# Altium footprint library SOP_MSOP.PcbLib: 10 footprints
Each footprint in its own frame and in the unit in brackets; x right, y up, seen from the top. Pads: shape width x height; smd on the part's side, far side on the other; paste and mask are expansions set on the pad; w line width, h text height; cw(c..) or ccw(c..) is an arc to the next point about the centre after c.
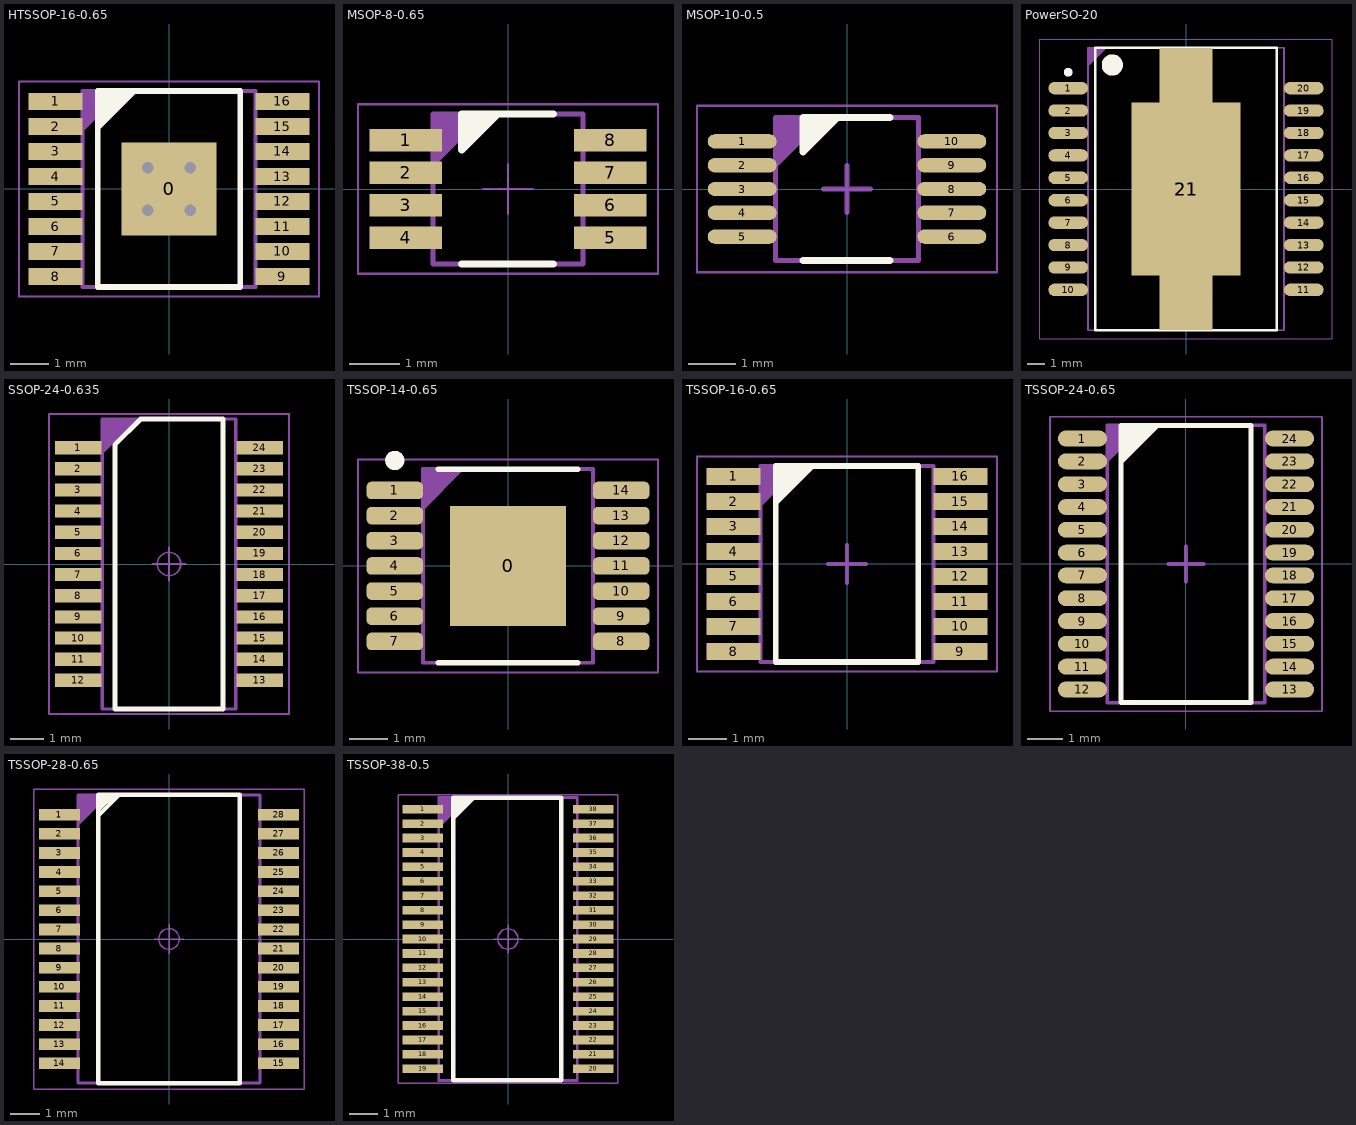
[diagram p0: the footprints below, top view; thin cyan lines are the x and y axes]

## HTSSOP-16-0.65 [mm] "TSOP, 16-Leads, Body 5,00x4,40mm, Pitch 0,65mm, Thermal Pad 2,41x2,46mm, IPC Medium Density"
height 1.2
pads (17):
  rect 2.46x2.41 smd: 0(0,0)
  rect 1.4x0.45 smd: 1(-2.95,2.275) 2(-2.95,1.625) 3(-2.95,0.975) 4(-2.95,0.325) 5(-2.95,-0.325) 6(-2.95,-0.975) 7(-2.95,-1.625) 8(-2.95,-2.275) 9(2.95,-2.275) 10(2.95,-1.625) 11(2.95,-0.975) 12(2.95,-0.325) 13(2.95,0.325) 14(2.95,0.975) 15(2.95,1.625) 16(2.95,2.275)
via 0.55,-0.55 diameter 0.7 hole 0.3
via -0.55,-0.55 diameter 0.7 hole 0.3
via 0.55,0.55 diameter 0.7 hole 0.3
via -0.55,0.55 diameter 0.7 hole 0.3
Top Overlay:
  lines w0.15: -1.85,1.6 -0.9,2.55 -1.1,2.55 -1.85,1.8 -1.85,2 -1.3,2.55 -1.5,2.55 -1.85,2.2 -1.85,2.4 -1.7,2.55 ; -1.85,-2.55 1.85,-2.55 1.85,2.55 -1.85,2.55 -1.85,-2.55
ASM Top:
  lines w0.1: -2.25,1.55 -1.25,2.55 ; -2.25,1.65 -1.35,2.55 ; -2.25,1.75 -1.45,2.55 ; -2.25,1.85 -1.55,2.55 ; -2.25,1.95 -1.65,2.55 ; -2.25,2.05 -1.75,2.55 ; -2.25,2.15 -1.85,2.55 ; -2.25,2.25 -1.95,2.55 ; -2.25,2.35 -2.05,2.55 ; -2.25,2.45 -2.15,2.55 ; -2.25,-2.55 -2.25,2.55 2.25,2.55 2.25,-2.55 -2.25,-2.55
  text ".Designator" at -0.175,-0.7 h1
PNP Top:
  lines w0.05: -3.9,-2.8 3.9,-2.8 3.9,2.8 -3.9,2.8 -3.9,-2.8
  lines w0.1: -0.5,0 0.5,0 ; 0,-0.5 0,0.5
3D body "TSOP65P640X120_HS-17N.step": height 1.2, standoff 0, extent -3.2,-2.55 3.2,2.55

## MSOP-8-0.65 [mm]
pads (8):
  rect 1.45x0.45 smd: 1(-2.044,0.975) 2(-2.044,0.325) 3(-2.044,-0.325) 4(-2.044,-0.975) 5(2.044,-0.975) 6(2.044,-0.325) 7(2.044,0.325) 8(2.044,0.975)
Top Overlay:
  lines w0.15: -0.925,-1.5 0.9,-1.5 ; -0.925,0.889 -0.925,0.907 -0.435,1.397 -0.562,1.397 -0.816,1.143 -0.816,1.27 -0.689,1.397 -0.816,1.397 ; -0.205,1.5 -0.925,0.78 -0.925,1.5 0.9,1.5
ASM Top:
  lines w0.1: -1.5,0.5 -0.5,1.5 ; -1.5,0.6 -0.6,1.5 ; -1.5,0.7 -0.7,1.5 ; -1.5,0.8 -0.8,1.5 ; -1.5,0.9 -0.9,1.5 ; -1.5,1 -1,1.5 ; -1.5,1.1 -1.1,1.5 ; -1.5,1.2 -1.2,1.5 ; -1.5,1.3 -1.3,1.5 ; -1.5,1.4 -1.4,1.5 ; -1.5,-1.5 -1.5,1.5 1.5,1.5 1.5,-1.5 -1.5,-1.5
  text ".Designator" at -0.9,-0.4 h0.6
PNP Top:
  lines w0.05: -0.5,0 0.5,0 ; 0,-0.5 0,0.5 ; -3,-1.7 3,-1.7 3,1.7 -3,1.7 -3,-1.7
3D body "SOP65P488X110-8N.stp": height 1.1, standoff 0, extent -2.45,-1.55 2.45,1.55

## MSOP-10-0.5 [mm] "TSSOP, 10-Leads, Body 3,00x3,00mm, Pitch 0,50mm, IPC Medium Density"
height 1.1
pads (10):
  oval 1.45x0.3 smd: 1(-2.2,1) 2(-2.2,0.5) 3(-2.2,0) 4(-2.2,-0.5) 5(-2.2,-1) 6(2.2,-1) 7(2.2,-0.5) 8(2.2,0) 9(2.2,0.5) 10(2.2,1)
Top Overlay:
  lines w0.15: -0.925,-1.5 0.9,-1.5 ; -0.925,0.889 -0.925,0.907 -0.435,1.397 -0.562,1.397 -0.816,1.143 -0.816,1.27 -0.689,1.397 -0.816,1.397 ; -0.205,1.5 -0.925,0.78 -0.925,1.5 0.9,1.5
ASM Top:
  lines w0.1: -1.5,0.5 -0.5,1.5 ; -1.5,0.6 -0.6,1.5 ; -1.5,0.7 -0.7,1.5 ; -1.5,0.8 -0.8,1.5 ; -1.5,0.9 -0.9,1.5 ; -1.5,1 -1,1.5 ; -1.5,1.1 -1.1,1.5 ; -1.5,1.2 -1.2,1.5 ; -1.5,1.3 -1.3,1.5 ; -1.5,1.4 -1.4,1.5 ; -1.5,-1.5 1.5,-1.5 1.5,1.5 -1.5,1.5 -1.5,-1.5
  text ".Designator" at -0.9,-0.4 h0.6
PNP Top:
  lines w0.05: -3.15,-1.75 3.15,-1.75 3.15,1.75 -3.15,1.75 -3.15,-1.75
  lines w0.1: -0.5,0 0.5,0 ; 0,-0.5 0,0.5
3D body "TSSOP50P490X110-10N.step": height 1.1, standoff 0, extent -2.45,-1.5 2.45,1.5

## PowerSO-20 [mm] "SOP, 20-Leads, Body 15,90x11,00mm, Pitch 1,27mm, Thermal Pad 9,80x6,20mm, IPC Low Density"
height 3.6
pads (22):
  oval 2.25x0.7 smd: 1(-6.675,5.715) 2(-6.675,4.445) 3(-6.675,3.175) 4(-6.675,1.905) 5(-6.675,0.635) 6(-6.675,-0.635) 7(-6.675,-1.905) 8(-6.675,-3.175) 9(-6.675,-4.445) 10(-6.675,-5.715) 11(6.675,-5.715) 12(6.675,-4.445) 13(6.675,-3.175) 14(6.675,-1.905) 15(6.675,-0.635) 16(6.675,0.635) 17(6.675,1.905) 18(6.675,3.175) 19(6.675,4.445) 20(6.675,5.715)
  rect 6.2x9.8 smd: 21(0,0)
  rect 3x16 smd: 21(0,0)
Top Overlay:
  circle w0.25: c-6.675,6.615 r0.125
  circle w0.6: c-4.175,7.025 r0.3
  lines w0.15: -5.15,-8 -5.15,8 5.15,8 5.15,-8 -5.15,-8
ASM Top:
  lines w0.1: -5.55,7 -4.55,8 ; -5.55,7.1 -4.65,8 ; -5.55,7.2 -4.75,8 ; -5.55,7.3 -4.85,8 ; -5.55,7.4 -4.95,8 ; -5.55,7.5 -5.05,8 ; -5.55,7.6 -5.15,8 ; -5.55,7.7 -5.25,8 ; -5.55,7.8 -5.35,8 ; -5.55,7.9 -5.45,8 ; -5.55,-8 5.55,-8 5.55,8 -5.55,8 -5.55,-8
PNP Top:
  lines w0.05: -8.3,-8.5 -8.3,8.5 8.3,8.5 8.3,-8.5 -8.3,-8.5
  lines w0.1: -0.5,0 0.5,0 ; 0,-0.5 0,0.5
3D body "User Library-PowerSO20.STEP": height 3.6, standoff 0, extent -7.2,-8 7.2,8

## SSOP-24-0.635 [mm] "SOP, 24-Leads, Body 8,65x4,00mm, Pitch 0,64mm, IPC High Density"
height 1.75
pads (24):
  rect 1.4x0.4 smd: 1(-2.725,3.492) 2(-2.725,2.857) 3(-2.725,2.222) 4(-2.725,1.587) 5(-2.725,0.953) 6(-2.725,0.318) 7(-2.725,-0.318) 8(-2.725,-0.953) 9(-2.725,-1.587) 10(-2.725,-2.222) 11(-2.725,-2.857) 12(-2.725,-3.492) 13(2.725,-3.492) 14(2.725,-2.857) 15(2.725,-2.222) 16(2.725,-1.587) 17(2.725,-0.953) 18(2.725,-0.318) 19(2.725,0.318) 20(2.725,0.953) 21(2.725,1.587) 22(2.725,2.222) 23(2.725,2.857) 24(2.725,3.492)
Top Overlay:
  lines w0.15: -1.625,-4.35 1.625,-4.35 1.625,4.35 -0.85,4.35 -1.625,3.575 -1.625,-4.35
ASM Top:
  lines w0.1: -2,3.35 -1,4.35 ; -2,3.45 -1.1,4.35 ; -2,3.55 -1.2,4.35 ; -2,3.65 -1.3,4.35 ; -2,3.75 -1.4,4.35 ; -2,3.85 -1.5,4.35 ; -2,3.95 -1.6,4.35 ; -2,4.05 -1.7,4.35 ; -2,4.15 -1.8,4.35 ; -2,4.25 -1.9,4.35 ; -2,-4.35 -2,4.35 2,4.35 2,-4.35 -2,-4.35
  text ".Designator" at -1.4,-0.4 h0.75
PNP Top:
  circle w0.05: c0,0 r0.35
  lines w0.05: -0.5,0 0.5,0 ; 0,-0.5 0,0.5 ; -3.6,-4.5 -3.6,4.5 3.6,4.5 3.6,-4.5 -3.6,-4.5
3D body "SSOP-24.step": height 1.75, standoff 0, extent -3,-4.35 3,4.35

## TSSOP-14-0.65 [mm] "TSOP, 14-Leads, Body 5,00x4,40mm, Pitch 0,65mm, Thermal Pad 3,10x3,00mm, IPC Medium Density"
height 1.1
pads (15):
  rect 3x3.1 smd: 0(0,0)
  rrect50% 1.45x0.45 smd: 1(-2.925,1.95) 2(-2.925,1.3) 3(-2.925,0.65) 4(-2.925,0) 5(-2.925,-0.65) 6(-2.925,-1.3) 7(-2.925,-1.95) 8(2.925,-1.95) 9(2.925,-1.3) 10(2.925,-0.65) 11(2.925,0) 12(2.925,0.65) 13(2.925,1.3) 14(2.925,1.95)
Top Overlay:
  circle w0.25: c-2.925,2.725 r0.125
  lines w0.15: -1.8,-2.5 1.8,-2.5 ; -1.8,2.5 1.8,2.5
ASM Top:
  lines w0.1: -2.2,1.5 -1.2,2.5 ; -2.2,1.6 -1.3,2.5 ; -2.2,1.7 -1.4,2.5 ; -2.2,1.8 -1.5,2.5 ; -2.2,1.9 -1.6,2.5 ; -2.2,2 -1.7,2.5 ; -2.2,2.1 -1.8,2.5 ; -2.2,2.2 -1.9,2.5 ; -2.2,2.3 -2,2.5 ; -2.2,2.4 -2.1,2.5 ; -2.2,-2.5 -2.2,2.5 2.2,2.5 2.2,-2.5 -2.2,-2.5
PNP Top:
  lines w0.05: -3.875,-2.75 -3.875,2.75 3.875,2.75 3.875,-2.75 -3.875,-2.75
  lines w0.1: -0.5,0 0.5,0 ; 0,-0.5 0,0.5
3D body "TSOP65P640X110_HS-15N.step": height 1.1, standoff 0, extent -3.2,-2.5 3.2,2.5

## TSSOP-16-0.65 [mm] "TSOP, 16-Leads, Body 5,00x4,40mm, Pitch 0,65mm, Thermal Pad 2,41x2,46mm, IPC Medium Density"
height 1.2
pads (16):
  rect 1.4x0.45 smd: 1(-2.95,2.275) 2(-2.95,1.625) 3(-2.95,0.975) 4(-2.95,0.325) 5(-2.95,-0.325) 6(-2.95,-0.975) 7(-2.95,-1.625) 8(-2.95,-2.275) 9(2.95,-2.275) 10(2.95,-1.625) 11(2.95,-0.975) 12(2.95,-0.325) 13(2.95,0.325) 14(2.95,0.975) 15(2.95,1.625) 16(2.95,2.275)
Top Overlay:
  lines w0.15: -1.85,1.6 -0.9,2.55 -1.1,2.55 -1.85,1.8 -1.85,2 -1.3,2.55 -1.5,2.55 -1.85,2.2 -1.85,2.4 -1.7,2.55 ; -1.85,-2.55 1.85,-2.55 1.85,2.55 -1.85,2.55 -1.85,-2.55
ASM Top:
  lines w0.1: -2.25,1.55 -1.25,2.55 ; -2.25,1.65 -1.35,2.55 ; -2.25,1.75 -1.45,2.55 ; -2.25,1.85 -1.55,2.55 ; -2.25,1.95 -1.65,2.55 ; -2.25,2.05 -1.75,2.55 ; -2.25,2.15 -1.85,2.55 ; -2.25,2.25 -1.95,2.55 ; -2.25,2.35 -2.05,2.55 ; -2.25,2.45 -2.15,2.55 ; -2.25,-2.55 2.25,-2.55 2.25,2.55 -2.25,2.55 -2.25,-2.55
  text ".Designator" at -0.175,-0.7 h1
PNP Top:
  lines w0.05: -3.9,-2.8 3.9,-2.8 3.9,2.8 -3.9,2.8 -3.9,-2.8
  lines w0.1: -0.5,0 0.5,0 ; 0,-0.5 0,0.5
3D body "TSOP65P640X120_HS-17N.step": height 1.2, standoff 0, extent -3.2,-2.55 3.2,2.55

## TSSOP-24-0.65 [mm] "TSOP, 24-Leads, Body 7,80x4,40mm, Pitch 0,65mm, IPC Medium Density"
height 1.2
pads (24):
  oval 1.4x0.45 smd: 1(-2.95,3.575) 2(-2.95,2.925) 3(-2.95,2.275) 4(-2.95,1.625) 5(-2.95,0.975) 6(-2.95,0.325) 7(-2.95,-0.325) 8(-2.95,-0.975) 9(-2.95,-1.625) 10(-2.95,-2.275) 11(-2.95,-2.925) 12(-2.95,-3.575) 13(2.95,-3.575) 14(2.95,-2.925) 15(2.95,-2.275) 16(2.95,-1.625) 17(2.95,-0.975) 18(2.95,-0.325) 19(2.95,0.325) 20(2.95,0.975) 21(2.95,1.625) 22(2.95,2.275) 23(2.95,2.925) 24(2.95,3.575)
Top Overlay:
  region: -1.85,3.95 -0.725,3.95 -1.85,2.825
  region: -1.85,3.95
  lines w0.15: -1.85,-3.95 1.85,-3.95 1.85,3.95 -1.85,3.95 -1.85,-3.95
ASM Top:
  lines w0.1: -2.25,2.95 -1.25,3.95 ; -2.25,3.05 -1.35,3.95 ; -2.25,3.15 -1.45,3.95 ; -2.25,3.25 -1.55,3.95 ; -2.25,3.35 -1.65,3.95 ; -2.25,3.45 -1.75,3.95 ; -2.25,3.55 -1.85,3.95 ; -2.25,3.65 -1.95,3.95 ; -2.25,3.75 -2.05,3.95 ; -2.25,3.85 -2.15,3.95 ; -2.25,-3.95 2.25,-3.95 2.25,3.95 -2.25,3.95 -2.25,-3.95
PNP Top:
  lines w0.05: -3.875,-4.2 3.875,-4.2 3.875,4.2 -3.875,4.2 -3.875,-4.2
  lines w0.1: -0.5,0 0.5,0 ; 0,-0.5 0,0.5
3D body "TSOP65P640X120-24N.step": height 1.2, standoff 0, extent -3.2,-3.95 3.2,3.95

## TSSOP-28-0.65 [mm] "SOP, 28-Leads, Body 10,00x5,30mm, Pitch 0,65mm, IPC High Density"
height 2
pads (28):
  rect 1.4x0.4 smd: 1(-3.725,4.225) 2(-3.725,3.575) 3(-3.725,2.925) 4(-3.725,2.275) 5(-3.725,1.625) 6(-3.725,0.975) 7(-3.725,0.325) 8(-3.725,-0.325) 9(-3.725,-0.975) 10(-3.725,-1.625) 11(-3.725,-2.275) 12(-3.725,-2.925) 13(-3.725,-3.575) 14(-3.725,-4.225) 15(3.725,-4.225) 16(3.725,-3.575) 17(3.725,-2.925) 18(3.725,-2.275) 19(3.725,-1.625) 20(3.725,-0.975) 21(3.725,-0.325) 22(3.725,0.325) 23(3.725,0.975) 24(3.725,1.625) 25(3.725,2.275) 26(3.725,2.925) 27(3.725,3.575) 28(3.725,4.225)
Top Overlay:
  lines w0.15: -2.4,4.2 -1.7,4.9 ; -2.4,4.4 -1.9,4.9 ; -2.4,4.6 -2.1,4.9 ; -2.4,4.7 -2.2,4.9 ; -2.4,-4.9 2.4,-4.9 2.4,4.9 -2.4,4.9 -2.4,-4.9
ASM Top:
  lines w0.1: -3.1,3.9 -2.1,4.9 ; -3.1,4 -2.2,4.9 ; -3.1,4.1 -2.3,4.9 ; -3.1,4.2 -2.4,4.9 ; -3.1,4.3 -2.5,4.9 ; -3.1,4.4 -2.6,4.9 ; -3.1,4.5 -2.7,4.9 ; -3.1,4.6 -2.8,4.9 ; -3.1,4.7 -2.9,4.9 ; -3.1,4.8 -3,4.9 ; -3.1,-4.9 3.1,-4.9 3.1,4.9 -3.1,4.9 -3.1,-4.9
  text ".Designator" at -2.6,-0.7 h0.75
PNP Top:
  circle w0.05: c0,0 r0.35
  lines w0.05: -0.5,0 0.5,0 ; 0,-0.5 0,0.5 ; -4.6,-5.1 4.6,-5.1 4.6,5.1 -4.6,5.1 -4.6,-5.1
3D body "User Library-TSSOP-28W.STEP": height 1.2, standoff 0, extent -4.05,-4.85 4.05,4.85

## TSSOP-38-0.5 [mm] "TSSOP, 38-Leads, Body 9,70x4,40mm, Pitch 0,50mm"
height 1.2
pads (38):
  rect 1.4x0.3 smd: 1(-2.95,4.5) 2(-2.95,4) 3(-2.95,3.5) 4(-2.95,3) 5(-2.95,2.5) 6(-2.95,2) 7(-2.95,1.5) 8(-2.95,1) 9(-2.95,0.5) 10(-2.95,0) 11(-2.95,-0.5) 12(-2.95,-1) 13(-2.95,-1.5) 14(-2.95,-2) 15(-2.95,-2.5) 16(-2.95,-3) 17(-2.95,-3.5) 18(-2.95,-4) 19(-2.95,-4.5) 20(2.95,-4.5) 21(2.95,-4) 22(2.95,-3.5) 23(2.95,-3) 24(2.95,-2.5) 25(2.95,-2) 26(2.95,-1.5) 27(2.95,-1) 28(2.95,-0.5) 29(2.95,0) 30(2.95,0.5) 31(2.95,1) 32(2.95,1.5) 33(2.95,2) 34(2.95,2.5) 35(2.95,3) 36(2.95,3.5) 37(2.95,4) 38(2.95,4.5)
Top Overlay:
  lines w0.15: -1.9,4.2 -1.2,4.9 ; -1.9,4.4 -1.4,4.9 ; -1.9,4.6 -1.6,4.9 ; -1.9,4.7 -1.7,4.9 ; -1.9,-4.9 -1.9,4.9 1.85,4.9 1.85,-4.9 -1.9,-4.9
ASM Top:
  lines w0.1: -2.4,3.9 -1.4,4.9 ; -2.4,4 -1.5,4.9 ; -2.4,4.1 -1.6,4.9 ; -2.4,4.2 -1.7,4.9 ; -2.4,4.3 -1.8,4.9 ; -2.4,4.4 -1.9,4.9 ; -2.4,4.5 -2,4.9 ; -2.4,4.6 -2.1,4.9 ; -2.4,4.7 -2.2,4.9 ; -2.4,4.8 -2.3,4.9 ; -2.4,-4.9 2.4,-4.9 2.4,4.9 -2.4,4.9 -2.4,-4.9
  text ".Designator" at -1.9,-0.4 h0.75
PNP Top:
  circle w0.05: c0,0 r0.35
  lines w0.05: -0.5,0 0.5,0 ; 0,-0.5 0,0.5 ; -3.8,-5 -3.8,5 3.8,5 3.8,-5 -3.8,-5
3D body "SW3dPS-TSSOP-38.STEP": height 1.02, standoff 0.03, extent -3.2,-4.85 3.2,4.85